# Altium schematic symbol library CON_JST_.SchLib: 33 symbols (part 1 of 2)
Pins are listed as number, name and electrical type; pins without a type are passive.

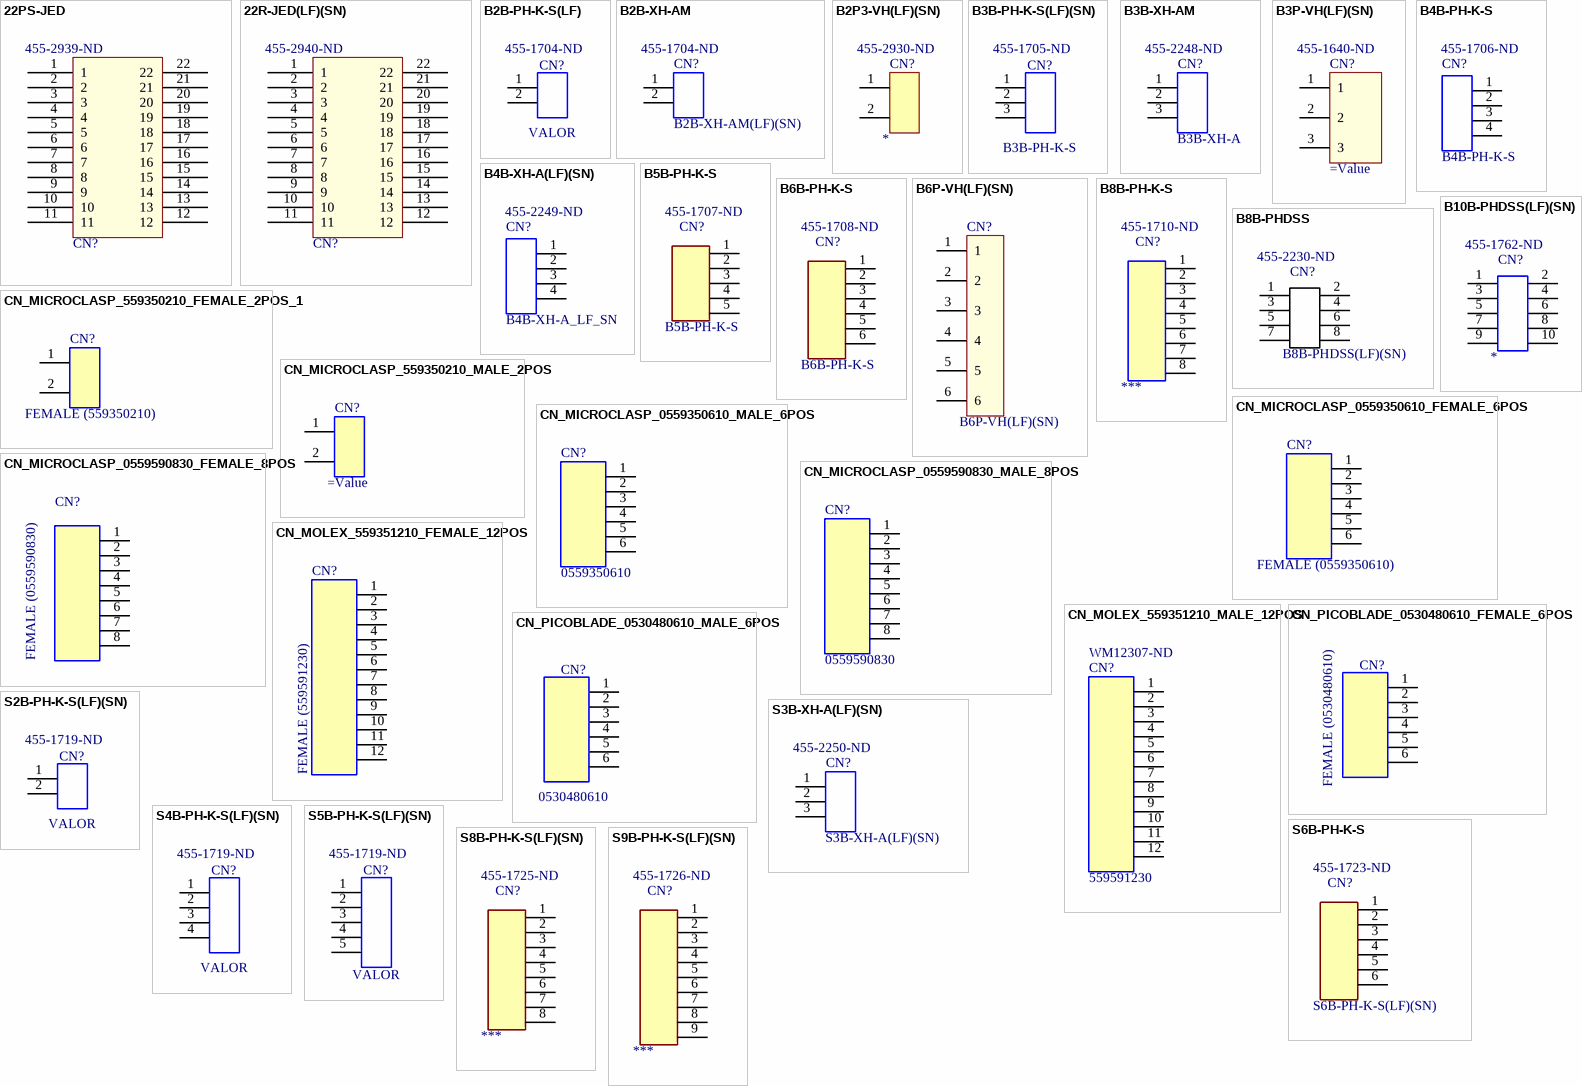
[diagram p0: symbols 22PS-JED to S9B-PH-K-S(LF)(SN)]

## 22PS-JED
designator CN?  Supplier Part Number 1: 455-2939-ND
Grid pitch: 1.25 mm 22PS-JED JST Content: 1 pc(s); FABRICANTE: JST Sales America Inc.; Number of Positions: 22; Pitch: 0.049inch; Row Spacing: 0.079inch; MPN: 22PS-JED; FOOTPRINT: 22PS-JED; VALUE: *; ComponentLink1Description: LOJA; ComponentLink1URL: https://www.digikey.com/products/en?keywords=22PS-JED; ComponentLink2Description: DATASHEET; ComponentLink2URL: http://www.jst-mfg.com/product/pdf/eng/eJED.pdf; Supplier 1: Digi-Key; Manufacturer: JST; Manufacturer Part Number: 22PS-JED; RoHS: Yes; Category: Board to Board Connectors; Stock 1: 639; Pricing 1: 1=1,18000, 10=1,04100, 100=0,89780, 500=0,73454, 1000=0,65293, 5000=0,57132, 10000=0,54275 (USD); Mount: Through Hole; Contact Plating: Tin; Color: Natural; Contact Material: Gold; Package Quantity: 500; Number of Rows: 2; Packaging: Bulk; Termination: Solder; Contact Mating Length: 0.079inch; Lead Free: Lead Free; ComponentLink3URL: https://datasheet.ciiva.com/410/ejed-410196.pdf?src-supplier=Digi-Key; ComponentLink3Description: https://datasheet.ciiva.com/410/ejed-410196.pdf?src-supplier=Digi-Key; ComponentLink4URL: https://datasheet.ciiva.com/29351/554136-da-01-en-stiftleiste-abgewinkelt-2x11-pol-rm1-25-29351110.pdf?src-supplier=Conrad; ComponentLink4Description: https://datasheet.ciiva.com/29351/554136-da-01-en-stiftleiste-abgewinkelt-2x11-pol-rm1-25-29351110.pdf?src-supplier=Conrad
footprint 22PS-JED (CONN HEADER R/A 22POS 1.25MM)
pins: 1, 2, 3, 4, 5, 6, 7, 8, 9, 10, 11, 12, 13, 14, 15, 16, 17, 18, 19, 20, 21, 22

## 22R-JED(LF)(SN)
designator CN?  Supplier Part Number 1: 455-2940-ND
CONN RECEPT 22POS; MPN: 22R-JED(LF)(SN); Manufacturer: JST; FABRICANTE: JST Sales America Inc.; Number of Positions: 22; Connector Type: Receptacle; Pitch: 0.049inch; Row Spacing: 0.079inch; FOOTPRINT: 22R-JED(LF)(SN); VALUE: *; ComponentLink1Description: LOJA; ComponentLink1URL: https://www.digikey.com/products/en?keywords=22PS-JED; ComponentLink2Description: DATASHEET; ComponentLink2URL: http://www.jst-mfg.com/product/pdf/eng/eJED.pdf; Supplier 1: Digi-Key; Manufacturer Part Number: 22R-JED(LF)(SN); RoHS: Yes; Category: Connectors; Stock 1: 2; Pricing 1: 1=1,27000, 10=1,11900, 100=0,96510, 500=0,78966, 1000=0,70192, 5000=0,61418, 10000=0,58347 (USD); Mount: Through Hole; Contact Plating: Tin; Color: Natural; Termination: Solder; Package Quantity: 500; Number of Rows: 2; Packaging: Bulk; Lead Free: Lead Free; ComponentLink3URL: https://datasheet.ciiva.com/413/ejed-413317.pdf?src-supplier=Digi-Key; ComponentLink3Description: https://datasheet.ciiva.com/413/ejed-413317.pdf?src-supplier=Digi-Key
footprint 22R-JED(LF)(SN) (CONN RCPT 22POS 0.049 TIN PCB)
pins: 1, 2, 3, 4, 5, 6, 7, 8, 9, 10, 11, 12, 13, 14, 15, 16, 17, 18, 19, 20, 21, 22

## B2B-PH-K-S(LF)
designator CN?, comment VALOR  Supplier Part Number 1: 455-1704-ND
Connector Header, PH Series, 2 Position, 2.00mm, Through Hole, Press-Fit, Solder, Natural; MPN: B2B-PH-K-S; Manufacturer: JST; Manufacturer Part Number: B2B-PH-K-S(LF)(SN); Fabricante: JST Sales; Footprint: None; Value: VALOR; ComponentLink1Description: LOJA; ComponentLink1URL: https://www.digikey.com/products/en?keywords=B2B-PH-K-S(LF); Supplier 1: Digi-Key; RoHS: Yes; Category: Connectors; Stock 1: 47313; Pricing 1: 1=0,17000, 10=0,16200, 100=0,10020, 500=0,08288, 1000=0,07252, 5000=0,06216, 10000=0,06044 (USD); Weight: 0.0625lb; Length: 0.2inch; Height: 0.35inch; Width: 0.24inch; ComponentLink2URL: http://www.farnell.com/datasheets/2057211.pdf?src-supplier=Farnell; ComponentLink2Description: http://www.farnell.com/datasheets/2057211.pdf?src-supplier=Farnell; ComponentLink3URL: http://www.farnell.com/datasheets/2057211.pdf?src-supplier=Element14; ComponentLink3Description: http://www.farnell.com/datasheets/2057211.pdf?src-supplier=Element14; ComponentLink4URL: http://www.farnell.com/datasheets/2057211.pdf?src-supplier=Newark; ComponentLink4Description: http://www.farnell.com/datasheets/2057211.pdf?src-supplier=Newark
footprint JST_B2B-PH-K-S(LF)(SN)
pins: 1, 2

## B2B-XH-AM
designator CN?, comment B2B-XH-AM(LF)(SN)  Supplier Part Number 1: 455-1704-ND
Connector Header, PH Series, 2 Position, 2.00mm, Through Hole, Press-Fit, Solder, Natural; Manufacturer: JST; Manufacturer Part Number: B2B-PH-K-S(LF)(SN); Fabricante: JST Sales; MPN: B2B-XH-AM(LF)(SN); Footprint: None; Value: B2B-XH-AM(LF)(SN); ComponentLink1Description: LOJA; ComponentLink1URL: https://www.digikey.com/product-detail/en/jst-sales-america-inc/B2B-XH-AM-LF-SN/455-2273-ND/1016630; Supplier 1: Digi-Key; RoHS: Yes; Category: Connectors; Stock 1: 47313; Pricing 1: 1=0,17000, 10=0,16200, 100=0,10020, 500=0,08288, 1000=0,07252, 5000=0,06216, 10000=0,06044 (USD); Weight: 0.0625lb; Length: 0.2inch; Height: 0.35inch; Width: 0.24inch; ComponentLink2URL: http://www.farnell.com/datasheets/2057211.pdf?src-supplier=Farnell; ComponentLink2Description: http://www.farnell.com/datasheets/2057211.pdf?src-supplier=Farnell; ComponentLink3URL: http://www.farnell.com/datasheets/2057211.pdf?src-supplier=Element14; ComponentLink3Description: http://www.farnell.com/datasheets/2057211.pdf?src-supplier=Element14; ComponentLink4URL: http://www.farnell.com/datasheets/2057211.pdf?src-supplier=Newark; ComponentLink4Description: http://www.farnell.com/datasheets/2057211.pdf?src-supplier=Newark
footprint JST_B2B-XH-AM (Connector Header Through Hole 2 position 0.098" (2.50mm))
pins: 1, 2

## B2P3-VH(LF)(SN)
designator CN?  Supplier Part Number 1: 455-2930-ND
Conn Wire to Board HDR 2 POS 7.92mm Solder ST Thru-Hole Box; MPN: B2P3-VH(LF)(SN); Manufacturer Part Number: B2P3VHLFSN; Fabricante: JST; Number of Positions: 2; Max Voltage Rating (AC): 250V; Connector Type: Male Pin; Contact Resistance: 20mR; Max Current Rating: 7A; Pitch: 0.312inch; Value: *; Footprint: PTH 2 PIN; ComponentLink1Description: LOJA; ComponentLink1URL: https://www.digikey.com/product-detail/en/jst-sales-america-inc/B2P3-VH-LF-SN/455-2930-ND/1963307; ComponentLink2Description: datasheet; ComponentLink2URL: http://www.jst-mfg.com/product/pdf/eng/eVA.pdf; Supplier 1: Digi-Key; Manufacturer: JST; RoHS: Yes; Category: Connectors; Mount: Through Hole; Housing Material: Polyamide; Housing Color: White; Contact Material: Brass; Contact Plating: Tin,Copper; Color: Natural; Min Operating Temperature: -25°C; Max Operating Temperature: 85°C; Termination: Solder; Orientation: Straight; Number of Rows: 1; Package Quantity: 1000; Fastening Type: Ramp,Friction; Packaging: Bulk; Length: 11.82mm; Contact Mating Length: 0.303inch; Depth: 8.5mm; Lead Free: Lead Free; ComponentLink3URL: https://datasheet.ciiva.com/16387/b2p3-vh-lf-sn-16387738.pdf?src-supplier=Future+Electronics; ComponentLink3Description: https://datasheet.ciiva.com/16387/b2p3-vh-lf-sn-16387738.pdf?src-supplier=Future+Electronics; ComponentLink4URL: https://datasheet.ciiva.com/26894/getdatasheetpartid-433263-26894763.pdf?src-supplier=Verical; ComponentLink4Description: https://datasheet.ciiva.com/26894/getdatasheetpartid-433263-26894763.pdf?src-supplier=Verical; ComponentLink5URL: https://datasheet.ciiva.com/730/eva-730588.pdf?src-supplier=Digi-Key; ComponentLink5Description: https://datasheet.ciiva.com/730/eva-730588.pdf?src-supplier=Digi-Key
footprint B2P3-VH(LF)(SN) (CONN HEADER VERT 2POS 7.92MM)
pins: 1, 2

## B3B-PH-K-S(LF)(SN)
designator CN?, comment B3B-PH-K-S  Supplier Part Number 1: 455-1705-ND
JST (JAPAN SOLDERLESS TERMINALS) - B3B-PH-K-S(LF)(SN) - Pin Header, Top Entry, Wire-to-Board, 2 mm, 1 Rows, 3 Contacts, Through Hole, PH Series; Fabricante: JST Sales; Number of Positions: 3; Connector Type: Male Pin; Current Rating: 2A; Contact Resistance: 20mR; Insulation Resistance: 1MR; Gender: Male; Voltage Rating (AC): 100V; Pitch: 2mm; MPN: B3B-PH-K-S; Footprint: None; Value: B3B-PH-K-S; ComponentLink1Description: LOJA; ComponentLink1URL: https://www.digikey.com/products/en?keywords=B3B-PH-K-S(LF)(SN); Supplier 1: Digi-Key; Manufacturer: JST; Manufacturer Part Number: B3B-PH-K-S(LF)(SN); RoHS: Yes; Category: Headers and Wire Housings; Stock 1: 65230; Pricing 1: 1=0,19000, 10=0,18200, 100=0,12620, 500=0,10676, 1000=0,08736, 5000=0,07765, 10000=0,07037 (USD); Mount: Through Hole; Number of Pins: 3; Contact Plating: Tin,Copper; Color: Natural; Contact Material: Brass,Tin; Housing Color: White; Housing Material: Polyamide; Min Operating Temperature: -25°C; Max Operating Temperature: 85°C; Number of Rows: 1; Packaging: Bulk; Termination: Solder; Fastening Type: Detent; Number of Contacts: 3; Orientation: Straight; Max Current Rating: 2A; Number of Poles: 3; Voltage Rating: 100V; Max Voltage Rating (AC): 100V; Max Voltage Rating (DC): 100V; Working Voltage: 100V; Length: 7.9mm; Height: 9.4mm; Contact Mating Length: 0.13inch; Width: 4.5mm; Lead Pitch: 2mm; Depth: 4.5mm; Lead Free: Lead Free; REACH SVHC: No SVHC; ComponentLink2URL: https://datasheet.ciiva.com/6747/80560-6747401.pdf?src-supplier=Newark; ComponentLink2Description: https://datasheet.ciiva.com/6747/80560-6747401.pdf?src-supplier=Newark; ComponentLink3URL: https://datasheet.ciiva.com/11746/0900766b80826550-11746939.pdf?src-supplier=RSComponents; ComponentLink3Description: https://datasheet.ciiva.com/11746/0900766b80826550-11746939.pdf?src-supplier=RSComponents; ComponentLink4URL: https://datasheet.ciiva.com/26894/getdatasheetpartid-448114-26894774.pdf?src-supplier=Verical; ComponentLink4Description: https://datasheet.ciiva.com/26894/getdatasheetpartid-448114-26894774.pdf?src-supplier=Verical; ComponentLink5URL: https://datasheet.ciiva.com/712/eph-712455.pdf?src-supplier=Digi-Key; ComponentLink5Description: https://datasheet.ciiva.com/712/eph-712455.pdf?src-supplier=Digi-Key; ComponentLink6URL: https://datasheet.ciiva.com/26924/getdatasheetpartid-651387-26924028.pdf?src-supplier=Verical; ComponentLink6Description: https://datasheet.ciiva.com/26924/getdatasheetpartid-651387-26924028.pdf?src-supplier=Verical; ComponentLink7URL: https://datasheet.ciiva.com/16200/eph-16200926.pdf?src-supplier=Future+Electronics; ComponentLink7Description: https://datasheet.ciiva.com/16200/eph-16200926.pdf?src-supplier=Future+Electronics; ComponentLink8URL: https://datasheet.ciiva.com/43491/741202-da-01-en-stiftleiste-gerade-3-pol-rm2-0-43491962.pdf?src-supplier=Conrad; ComponentLink8Description: https://datasheet.ciiva.com/43491/741202-da-01-en-stiftleiste-gerade-3-pol-rm2-0-43491962.pdf?src-supplier=Conrad
footprint JST_B3B-PH-K-S(LF)(SN)
pins: 1, 2, 3

## B3B-XH-AM
designator CN?, comment B3B-XH-A  Supplier Part Number 1: 455-2248-ND
JST (JAPAN SOLDERLESS TERMINALS) - B3B-XH-A (LF)(SN) - Wire-To-Board Connector, 2.5 mm, 3 Contacts, Header, XH Series, Through Hole, 1 Rows; Fabricante: JST Sales; Insulation Resistance: 1GR; Current Rating: 3A; Contact Resistance: 20mR; Number of Positions: 3; Connector Type: Male Pin; Max Voltage Rating (AC): 250V; Gender: Male; Pitch: 2.5mm; Wire/Cable Gauge: 22AWG; MPN: B3B-XH-A; Footprint: None; Value: B3B-XH-A; ComponentLink1Description: LOJA; ComponentLink1URL: https://www.digikey.com/product-detail/en/jst-sales-america-inc/B3B-XH-AM-LF-SN/455-2231-ND/1651029; Supplier 1: Digi-Key; Manufacturer: JST; Manufacturer Part Number: B3B-XH-A(LF)(SN); RoHS: Yes; Category: Headers and Wire Housings; Stock 1: 29132; Pricing 1: 1=0,190000, 10=0,181000, 100=0,111500, 500=0,092280, 1000=0,080750, 5000=0,069210, 10000=0,067290 (USD); Mount: Through Hole; Contact Plating: Tin,Lead,Copper; Contact Material: Brass; Color: Natural; Housing Material: Polyamide; Housing Color: White; Min Operating Temperature: -25°C; Max Operating Temperature: 85°C; Packaging: Bulk; Termination: Press-Fit; Number of Rows: 1; Orientation: Straight; Max Current Rating: 3A; Fastening Type: Detent; Voltage Rating (AC): 250V; Voltage Rating: 250V; Number of Contacts: 3; Max Voltage Rating (DC): 250V; Length: 9.9mm; Depth: 5.75mm; Lead Pitch: 2.5mm; Lead Free: Lead Free; REACH SVHC: No SVHC; ComponentLink2URL: https://datasheet.ciiva.com/26894/getdatasheetpartid-640434-26894454.pdf?src-supplier=Verical; ComponentLink2Description: https://datasheet.ciiva.com/26894/getdatasheetpartid-640434-26894454.pdf?src-supplier=Verical; ComponentLink3URL: https://datasheet.ciiva.com/11746/0900766b8082653f-11746520.pdf?src-supplier=RSComponents; ComponentLink3Description: https://datasheet.ciiva.com/11746/0900766b8082653f-11746520.pdf?src-supplier=RSComponents; ComponentLink4URL: https://datasheet.ciiva.com/26894/getdatasheetpartid-440399-26894778.pdf?src-supplier=Verical; ComponentLink4Description: https://datasheet.ciiva.com/26894/getdatasheetpartid-440399-26894778.pdf?src-supplier=Verical
footprint JST_B3B-XH-A(LF)(SN)
pins: 1, 2, 3

## B3P-VH(LF)(SN)
designator CN?  Supplier Part Number 1: 455-1640-ND
Manufacturer 1: JST; Manufacturer Part Number 1: B3P-VH(LF)(SN); Description 1: JST (JAPAN SOLDERLESS TERMINALS) - B3P-VH(LF)(SN) - Pin Header, Wire-to-Board, 3.96 mm, 1 Rows, 3 Contacts, Through Hole, VH Series; Current Rating: 10A; Voltage Rating (AC): 250V; Contact Resistance: 20mR; Number of Positions: 3; Insulation Resistance: 1GR; Gender: Male; Connector Type: Header,Male Pin; Pitch: 3.96mm; Supplier 1: Digi-Key; Stock 1: 17477; Pricing 1: 1=0,24000, 10=0,22700, 100=0,15740, 500=0,13322, 1000=0,10900, 5000=0,09689, 10000=0,08780 (USD); RoHS: Yes; Mount: Through Hole; Number of Pins: 3; Contact Material: Brass,Tin; Contact Plating: Tin,Copper; Color: Natural; Housing Color: White; Housing Material: Polyamide; Contact Shape: Square; Insulation Material: Nylon; Insulation Color: Natural; Min Operating Temperature: -25°C; Max Operating Temperature: 85°C; Number of Rows: 1; Voltage Rating (DC): 250V; Fastening Type: Ramp; Packaging: Bulk; Voltage Rating: 250V; Max Current Rating: 10A; Termination: Solder; Number of Contacts: 3; Working Voltage: 250V; Max Voltage Rating (AC): 250V; Max Voltage Rating (DC): 250V; Orientation: Straight; Length: 11.82mm; Height: 8.5mm; Width: 14.6mm; Lead Pitch: 3.96mm; Contact Mating Length: 0.303inch; Depth: 8.5mm; REACH SVHC: No SVHC; Lead Free: Lead Free; Flammability Rating: UL94 V-0; ComponentLink1URL: https://datasheet.ciiva.com/11752/0900766b8082f569-11752092.pdf?src-supplier=RSComponents; ComponentLink1Description: https://datasheet.ciiva.com/11752/0900766b8082f569-11752092.pdf?src-supplier=RSComponents; ComponentLink2URL: https://datasheet.ciiva.com/712/evh-712484.pdf?src-supplier=Digi-Key; ComponentLink2Description: https://datasheet.ciiva.com/712/evh-712484.pdf?src-supplier=Digi-Key; ComponentLink3URL: https://datasheet.ciiva.com/8052/evh-8052040.pdf?src-supplier=Element14; ComponentLink3Description: https://datasheet.ciiva.com/8052/evh-8052040.pdf?src-supplier=Element14; ComponentLink4URL: https://datasheet.ciiva.com/20207/523651-20207208.pdf?src-supplier=Rapid+Electronics; ComponentLink4Description: https://datasheet.ciiva.com/20207/523651-20207208.pdf?src-supplier=Rapid+Electronics
footprint B3P-VH(LF)(SN)
pins: 1, 2, 3

## B4B-PH-K-S
designator CN?  Supplier Part Number 1: 455-1706-ND
JST (JAPAN SOLDERLESS TERMINALS) - B4B-PH-K-S(LF)(SN) - Pin Header, Wire-to-Board, 2 mm, 1 Rows, 4 Contacts, Through Hole, PH Series; Fabricante: JST Sales; Current Rating: 2A; Contact Resistance: 20mR; Number of Positions: 4; Insulation Resistance: 1MR; Gender: Male; Connector Type: Male Pin; Voltage Rating: 100V; Pitch: 2mm; MPN: B4B-PH-K-S; Footprint: PTH 4Pin; Value: B4B-PH-K-S; Supplier 1: Digi-Key; Manufacturer: JST; Manufacturer Part Number: B4B-PH-K-S(LF)(SN); RoHS: Yes; Category: Connectors; Pricing 1: 1=0,240000, 10=0,227000, 100=0,157300, 500=0,133120, 1000=0,108920, 5000=0,096820, 10000=0,087740 (USD); Mount: Through Hole; Number of Pins: 4; Contact Material: Brass,Tin; Contact Plating: Tin,Copper; Color: Natural; Housing Color: White; Housing Material: Polyamide; Material: Polyamide; Min Operating Temperature: -25°C; Max Operating Temperature: 85°C; Number of Rows: 1; Packaging: Bulk; Termination: Solder; Fastening Type: Detent; Number of Contacts: 4; Orientation: Straight; Max Current Rating: 2A; Number of Poles: 4; Voltage Rating (AC): 100V; Max Voltage Rating (AC): 100V; Max Voltage Rating (DC): 100V; Working Voltage: 100V; Length: 9.9mm; Height: 9.4mm; Width: 4.5mm; Contact Mating Length: 0.13inch; Lead Pitch: 2mm; Depth: 4.5mm; Lead Free: Lead Free; REACH SVHC: No SVHC; ComponentLink1URL: https://datasheet.ciiva.com/11747/0900766b8082f552-11747200.pdf?src-supplier=RSComponents; ComponentLink1Description: https://datasheet.ciiva.com/11747/0900766b8082f552-11747200.pdf?src-supplier=RSComponents; ComponentLink2URL: https://datasheet.ciiva.com/712/eph-712488.pdf?src-supplier=Digi-Key; ComponentLink2Description: https://datasheet.ciiva.com/712/eph-712488.pdf?src-supplier=Digi-Key; ComponentLink3URL: https://datasheet.ciiva.com/16209/eph-16209245.pdf?src-supplier=Future+Electronics; ComponentLink3Description: https://datasheet.ciiva.com/16209/eph-16209245.pdf?src-supplier=Future+Electronics; ComponentLink4URL: https://datasheet.ciiva.com/43491/741223-da-01-en-stiftleiste-gerade-4-pol-rm2-0-43491964.pdf?src-supplier=Conrad; ComponentLink4Description: https://datasheet.ciiva.com/43491/741223-da-01-en-stiftleiste-gerade-4-pol-rm2-0-43491964.pdf?src-supplier=Conrad
footprint JST_B4B-PH-K-S(LF)(SN)
pins: 1, 2, 3, 4

## B4B-XH-A(LF)(SN)
designator CN?, comment B4B-XH-A_LF_SN  Supplier Part Number 1: 455-2249-ND
JST (JAPAN SOLDERLESS TERMINALS) - B4B-XH-A (LF)(SN) - Wire-To-Board-Steckverbinder, vertikal, 2.5 mm, 4 Kontakt(e), Stiftleiste, Baureihe XH; Fabricante: JST Sales; Gender: Male; Contact Resistance: 20mR; Current Rating: 3A; Voltage Rating (AC): 250V; Connector Type: Male Pin; Number of Positions: 4; Insulation Resistance: 1GR; Wire/Cable Gauge: 22AWG; Pitch: 2.5mm; MPN: B4B-XH-A_LF_SN; Footprint: None; Value: B4B-XH-A_LF_SN; Supplier 1: Digi-Key; Manufacturer: JST; Manufacturer Part Number: B4B-XH-A(LF)(SN); RoHS: Yes; Category: FFC / FPC; Stock 1: 60226; Pricing 1: 1=0,210000, 10=0,194000, 100=0,134800, 500=0,114060, 1000=0,093330, 5000=0,082960, 10000=0,075180 (USD); Mount: Through Hole; Material: Polyamide; Contact Plating: Tin,Copper,Lead; Contact Material: Brass; Color: Natural; Housing Material: Polyamide; Housing Color: White; Min Operating Temperature: -25°C; Max Operating Temperature: 85°C; Number of Rows: 1; Max Current Rating: 3A; Package Quantity: 500; Packaging: Bulk; Voltage Rating: 250V; Termination: Press-Fit; Max Voltage Rating (AC): 250V; Max Voltage Rating (DC): 250V; Number of Contacts: 4; Orientation: Straight; Length: 12.4mm; Lead Pitch: 2.5mm; Depth: 5.75mm; REACH SVHC: No SVHC; Lead Free: Lead Free; ComponentLink1URL: https://datasheet.ciiva.com/26894/getdatasheetpartid-455616-26894787.pdf?src-supplier=Verical; ComponentLink1Description: https://datasheet.ciiva.com/26894/getdatasheetpartid-455616-26894787.pdf?src-supplier=Verical; ComponentLink2URL: https://datasheet.ciiva.com/26924/getdatasheetpartid-640571-26924035.pdf?src-supplier=Verical; ComponentLink2Description: https://datasheet.ciiva.com/26924/getdatasheetpartid-640571-26924035.pdf?src-supplier=Verical; ComponentLink3URL: https://datasheet.ciiva.com/16203/b4b-xh-alfsn-16203642.pdf?src-supplier=Future+Electronics; ComponentLink3Description: https://datasheet.ciiva.com/16203/b4b-xh-alfsn-16203642.pdf?src-supplier=Future+Electronics; ComponentLink4URL: https://datasheet.ciiva.com/726/exh-726404.pdf?src-supplier=Digi-Key; ComponentLink4Description: https://datasheet.ciiva.com/726/exh-726404.pdf?src-supplier=Digi-Key
footprint JST_B4B-XH-A(LF)(SN)
pins: 1, 2, 3, 4

## B5B-PH-K-S
designator CN?  Supplier Part Number 1: 455-1707-ND
JST (JAPAN SOLDERLESS TERMINALS) - B5B-PH-K-S(LF)(SN) - Pin Header, Wire-to-Board, 2 mm, 1 Rows, 5 Contacts, Through Hole, PH Series; Fabricante: JST Sales; Current Rating: 2A; Contact Resistance: 20mR; Number of Positions: 5; Insulation Resistance: 1GR; Gender: Male; Connector Type: Male Pin; Voltage Rating: 100V; Pitch: 2mm; MPN: B5B-PH-K-S; Footprint: PTH 5Pin; Value: B5B-PH-K-S; ComponentLink1Description: LOJA; ComponentLink1URL: https://www.digikey.com/product-detail/en/jst-sales-america-inc/B5B-PH-K-S-LF-SN/455-1707-ND/926614; Supplier 1: Digi-Key; Manufacturer: JST; Manufacturer Part Number: B5B-PH-K-S(LF)(SN); RoHS: Yes; Category: Headers and Wire Housings; Stock 1: 35735; Pricing 1: 1=0,290000, 10=0,274000, 100=0,191800, 500=0,164380, 1000=0,136990, 5000=0,117420, 10000=0,109590 (USD); Mount: Through Hole; Number of Pins: 5; Contact Material: Brass,Tin; Color: Natural; Contact Plating: Tin,Copper; Housing Color: White; Housing Material: Polyamide; Material: Polyamide; Min Operating Temperature: -25°C; Max Operating Temperature: 85°C; Number of Rows: 1; Packaging: Bulk; Termination: Solder; Fastening Type: Detent; Number of Contacts: 5; Orientation: Straight; Max Current Rating: 2A; Number of Poles: 5; Voltage Rating (AC): 100V; Max Voltage Rating (AC): 100V; Working Voltage: 100V; Length: 11.9mm; Height: 9.4mm; Width: 4.5mm; Contact Mating Length: 0.13inch; Lead Pitch: 2mm; Depth: 4.5mm; Lead Free: Lead Free; REACH SVHC: No SVHC; ComponentLink2URL: https://datasheet.ciiva.com/11746/0900766b8082f553-11746665.pdf?src-supplier=RSComponents; ComponentLink2Description: https://datasheet.ciiva.com/11746/0900766b8082f553-11746665.pdf?src-supplier=RSComponents; ComponentLink3URL: https://datasheet.ciiva.com/712/eph-712531.pdf?src-supplier=Digi-Key; ComponentLink3Description: https://datasheet.ciiva.com/712/eph-712531.pdf?src-supplier=Digi-Key; ComponentLink4URL: https://datasheet.ciiva.com/20207/523648-20207238.pdf?src-supplier=Rapid+Electronics; ComponentLink4Description: https://datasheet.ciiva.com/20207/523648-20207238.pdf?src-supplier=Rapid+Electronics; ComponentLink5URL: https://datasheet.ciiva.com/26894/getdatasheetpartid-640355-26894471.pdf?src-supplier=Verical; ComponentLink5Description: https://datasheet.ciiva.com/26894/getdatasheetpartid-640355-26894471.pdf?src-supplier=Verical; ComponentLink6URL: https://datasheet.ciiva.com/8052/80560-8052060.pdf?src-supplier=Element14; ComponentLink6Description: https://datasheet.ciiva.com/8052/80560-8052060.pdf?src-supplier=Element14
footprint JST_B5B-PH-K-S(LF)(SN)
pins: 1, 2, 3, 4, 5

## B6B-PH-K-S
designator CN?  Supplier Part Number 1: 455-1708-ND
Conn Shrouded Header HDR 6 POS 2mm Solder ST Thru-Hole Box; MPN: B6B-PH-K-S(LF)(SN); Manufacturer: JST; Fabricante: JST Sales; Current Rating: 2A; Number of Positions: 6; Insulation Resistance: 1MR; Working Voltage: 100V; Gender: Male; Contact Resistance: 20mR; Connector Type: Male Pin; Footprint: PTH 5Pin; Value: B6B-PH-K-S; ComponentLink1Description: LOJA; ComponentLink1URL: https://www.digikey.com/product-detail/en/jst-sales-america-inc/B6B-PH-K-S-LF-SN/455-1708-ND/926615; Supplier 1: Digi-Key; Manufacturer Part Number: B6B-PH-K-S(LF)(SN); RoHS: Yes; Category: Connectors; Pricing 1: 1=0,33000, 10=0,31300, 100=0,21940, 500=0,18808, 1000=0,15674, 5000=0,13435, 10000=0,12539 (USD); Mount: Through Hole; Number of Pins: 6; Contact Material: Tin,Brass; Color: Natural; Contact Plating: Tin,Copper; Housing Material: Polyamide; Housing Color: White; Min Operating Temperature: -25°C; Max Operating Temperature: 85°C; Termination: Solder; Fastening Type: Detent; Number of Contacts: 6; Max Voltage Rating (AC): 100V; Number of Rows: 1; Packaging: Bulk; Number of Poles: 6; Voltage Rating (AC): 100V; Max Current Rating: 2A; Voltage Rating: 100V; Orientation: Straight; Length: 13.9mm; Height: 9.4mm; Pitch: 2mm; Width: 4.5mm; Contact Mating Length: 0.13inch; Depth: 4.5mm; Lead Pitch: 2mm; Lead Free: Lead Free; REACH SVHC: No SVHC; ComponentLink2URL: https://datasheet.ciiva.com/11747/0900766b8082f554-11747368.pdf?src-supplier=RSComponents; ComponentLink2Description: https://datasheet.ciiva.com/11747/0900766b8082f554-11747368.pdf?src-supplier=RSComponents; ComponentLink3URL: https://datasheet.ciiva.com/712/eph-712563.pdf?src-supplier=Digi-Key; ComponentLink3Description: https://datasheet.ciiva.com/712/eph-712563.pdf?src-supplier=Digi-Key; ComponentLink4URL: https://datasheet.ciiva.com/26894/getdatasheetpartid-639917-26894487.pdf?src-supplier=Verical; ComponentLink4Description: https://datasheet.ciiva.com/26894/getdatasheetpartid-639917-26894487.pdf?src-supplier=Verical; ComponentLink5URL: https://datasheet.ciiva.com/20207/523648-20207241.pdf?src-supplier=Rapid+Electronics; ComponentLink5Description: https://datasheet.ciiva.com/20207/523648-20207241.pdf?src-supplier=Rapid+Electronics; ComponentLink6URL: https://datasheet.ciiva.com/8052/80560-8052027.pdf?src-supplier=Element14; ComponentLink6Description: https://datasheet.ciiva.com/8052/80560-8052027.pdf?src-supplier=Element14
footprint JST_B6B-PH-K-S(LF)(SN)
pins: 1, 2, 3, 4, 5, 6

## B6P-VH(LF)(SN)
designator CN?
Manufacturer 1: JST; Description 1: CONNECTOR, HEADER, 6POS, 3.96MM, 1ROW; Product Range:VH Series; Contact Termination Type:Through Hole; Gender:Header; No. of Contacts:6; Pitch Spacing:3.96mm; Contact Plating:Tin; Contact Material:Brass; No. of Rows:1; SVHC:No SVHC ;RoHS Compliant: Yes; Current Rating: 10A; Number of Positions: 6; Max Voltage Rating (AC): 250V; Gender: Male; Contact Resistance: 20mR; Connector Type: Male Pin; Pitch: 3.96mm; Supplier 1: Digi-Key; Manufacturer Part Number 1: B6P-VH(LF)(SN); Stock 1: 2451; Pricing 1: 1=0,40000, 10=0,38100, 100=0,26680, 500=0,22866, 1000=0,19055, 5000=0,16333, 10000=0,15244 (USD); RoHS: Yes; Mount: Through Hole; Number of Pins: 6; Contact Material: Brass,Tin; Contact Plating: Tin,Copper; Color: Natural; Housing Material: Polyamide; Housing Color: White; Min Operating Temperature: -25°C; Max Operating Temperature: 85°C; Termination: Solder; Number of Contacts: 6; Number of Rows: 1; Voltage Rating: 250V; Fastening Type: Ramp; Packaging: Bulk; Max Current Rating: 10A; Orientation: Straight; Length: 23.7mm; Height: 8.5mm; Width: 14.6mm; Contact Mating Length: 0.303inch; Depth: 8.5mm; Lead Free: Lead Free; REACH SVHC: No SVHC; ComponentLink1URL: https://datasheet.ciiva.com/14667/0900766b81147fae-14667346.pdf?src-supplier=RSComponents; ComponentLink1Description: https://datasheet.ciiva.com/14667/0900766b81147fae-14667346.pdf?src-supplier=RSComponents; ComponentLink2URL: https://datasheet.ciiva.com/11752/0900766b8082f56f-11752080.pdf?src-supplier=RSComponents; ComponentLink2Description: https://datasheet.ciiva.com/11752/0900766b8082f56f-11752080.pdf?src-supplier=RSComponents; ComponentLink3URL: https://datasheet.ciiva.com/712/evh-712593.pdf?src-supplier=Digi-Key; ComponentLink3Description: https://datasheet.ciiva.com/712/evh-712593.pdf?src-supplier=Digi-Key; ComponentLink4URL: https://datasheet.ciiva.com/16396/evh-16396374.pdf?src-supplier=Future+Electronics; ComponentLink4Description: https://datasheet.ciiva.com/16396/evh-16396374.pdf?src-supplier=Future+Electronics; ComponentLink5URL: https://datasheet.ciiva.com/20207/523651-20207214.pdf?src-supplier=Rapid+Electronics; ComponentLink5Description: https://datasheet.ciiva.com/20207/523651-20207214.pdf?src-supplier=Rapid+Electronics; ComponentLink6URL: https://datasheet.ciiva.com/43491/741139-da-01-en-stiftleiste-gerade-6-pol-rm3-96-43491978.pdf?src-supplier=Conrad; ComponentLink6Description: https://datasheet.ciiva.com/43491/741139-da-01-en-stiftleiste-gerade-6-pol-rm3-96-43491978.pdf?src-supplier=Conrad; Value: B6P-VH(LF)(SN); Supplier Part Number 1: 455-1643-ND
footprint CN_B6P-VH(LF)(SN)
pins: 1, 2, 3, 4, 5, 6

## B8B-PH-K-S
designator CN?, comment ***  Supplier Part Number 1: 455-1710-ND
JST (JAPAN SOLDERLESS TERMINALS) - B8B-PH-K-S(LF)(SN) - Wire-To-Board Connector, 2 mm, 8 Contacts, Header, PH Series, Through Hole, 1 Rows; Fabricante: JST Sales; Current Rating: 2A; Gender: Male; Connector Type: Male Pin; Voltage Rating (AC): 100V; Number of Positions: 8; Insulation Resistance: 1MR; Contact Resistance: 20mR; Pitch: 2mm; MPN: B8B-PH-K-S(LF)(SN); Footprint: PTH 8Pin; Value: ***; ComponentLink1Description: LOJA; ComponentLink1URL: https://www.digikey.com/product-detail/en/jst-sales-america-inc/B8B-PH-K-S-LF-SN/455-1710-ND/926617; Supplier 1: Digi-Key; Manufacturer: JST; Manufacturer Part Number: B8B-PH-K-S(LF)(SN); RoHS: Yes; Category: Headers and Wire Housings; Stock 1: 36410; Pricing 1: 1=0,43000, 10=0,40400, 100=0,28300, 500=0,24260, 1000=0,20216, 5000=0,17328, 10000=0,16173 (USD); Mount: Through Hole; Number of Pins: 8; Contact Material: Brass,Tin; Housing Color: White; Housing Material: Polyamide; Color: Natural; Contact Plating: Tin,Copper; Min Operating Temperature: -25°C; Max Operating Temperature: 85°C; Orientation: Straight; Voltage Rating: 100V; Termination: Solder; Fastening Type: Detent; Number of Contacts: 8; Working Voltage: 100V; Max Voltage Rating (AC): 100V; Packaging: Bulk; Max Current Rating: 2A; Number of Rows: 1; Number of Poles: 8; Length: 17.9mm; Height: 9.4mm; Width: 4.5mm; Contact Mating Length: 0.13inch; Depth: 4.5mm; Lead Pitch: 2mm; Lead Free: Lead Free; REACH SVHC: No SVHC; ComponentLink2URL: https://datasheet.ciiva.com/11748/0900766b8082f556-11748132.pdf?src-supplier=RSComponents; ComponentLink2Description: https://datasheet.ciiva.com/11748/0900766b8082f556-11748132.pdf?src-supplier=RSComponents; ComponentLink3URL: https://datasheet.ciiva.com/16287/b8b-ph-k-slfsn-16287181.pdf?src-supplier=Future+Electronics; ComponentLink3Description: https://datasheet.ciiva.com/16287/b8b-ph-k-slfsn-16287181.pdf?src-supplier=Future+Electronics; ComponentLink4URL: https://datasheet.ciiva.com/26894/getdatasheetpartid-640460-26894502.pdf?src-supplier=Verical; ComponentLink4Description: https://datasheet.ciiva.com/26894/getdatasheetpartid-640460-26894502.pdf?src-supplier=Verical; ComponentLink5URL: https://datasheet.ciiva.com/6813/eph-6813750.pdf?src-supplier=Digi-Key; ComponentLink5Description: https://datasheet.ciiva.com/6813/eph-6813750.pdf?src-supplier=Digi-Key
footprint JST_B8B-PH-K-S(LF)(SN) (Connector Header Through Hole 8 position 0.079" (2.00mm))
pins: 1, 2, 3, 4, 5, 6, 7, 8

## B8B-PHDSS
designator CN?, comment B8B-PHDSS(LF)(SN)  Supplier Part Number 1: 455-2230-ND
CONN HEADER VERT 8POS 2MM; Fabricante: JST; Connector Type: Male Pin; Number of Positions: 8; Pitch: 0.079inch; ComponentLink1Description: LOJA; ComponentLink1URL: https://www.digikey.com/product-detail/en/jst-sales-america-inc/B8B-PHDSS-LF-SN/455-2230-ND/1651028; ComponentLink2Description: DATASHEET; ComponentLink2URL: http://www.jst-mfg.com/product/pdf/eng/ePHD.pdf; Value: B8B-PHDSS(LF)(SN); Footprint: B8B-PHDSS(LF)(SN); MPN: B8B-PHDSS(LF)(SN); Supplier 1: Digi-Key; Manufacturer: JST; Manufacturer Part Number: B8B-PHDSS(LF)(SN); RoHS: Yes; Category: Connectors; Pricing 1: 1=0,46000, 10=0,43800, 100=0,30640, 500=0,26262, 1000=0,21885, 5000=0,18758, 10000=0,17508 (USD); Mount: Through Hole; Color: Natural; Contact Plating: Tin,Lead; Packaging: Bulk; Number of Rows: 2; Termination: Solder; Fastening Type: Detent; Row Spacing: 0.079inch; Contact Mating Length: 0.114inch; Lead Free: Lead Free; ComponentLink3URL: https://datasheet.ciiva.com/16418/ephd-16418246.pdf?src-supplier=Future+Electronics; ComponentLink3Description: https://datasheet.ciiva.com/16418/ephd-16418246.pdf?src-supplier=Future+Electronics
footprint B8B-PHDSS (Conn Header TH 8 position 0.079" (2.00mm))
pins: 1, 2, 3, 4, 5, 6, 7, 8

## B10B-PHDSS(LF)(SN)
designator CN?  Supplier Part Number 1: 455-1762-ND
Conn Shrouded Header HDR 10 POS 2mm Solder ST Thru-Hole Box; MPN: B10B-PHDSS(LF)(SN); Fabricante: JST; Number of Positions: 10; Connector Type: Male Pin; Gender: Male; Current Rating: 3A; Contact Resistance: 20mR; Max Voltage Rating (AC): 250V; Row Spacing: 0.079inch; ComponentLink1Description: LOJA; ComponentLink1URL: https://www.digikey.com/products/en?keywords=B10B-PHDSS(LF)(SN); ComponentLink2Description: DATASHEET; ComponentLink2URL: http://www.jst-mfg.com/product/pdf/eng/ePHD.pdf; Value: *; Footprint: B10B-PHDSS TH 10 PIN; Supplier 1: Digi-Key; Manufacturer: JST; Manufacturer Part Number: B10B-PHDSS(LF)(SN); RoHS: Yes; Category: Connectors; Pricing 1: 1=0,50000, 10=0,47300, 100=0,33090, 500=0,28362, 1000=0,23636, 5000=0,20259, 10000=0,18909 (USD); Mount: Through Hole; Contact Material: Copper Alloy,Tin; Contact Plating: Tin,Copper; Color: Natural; Housing Color: Beige; Housing Material: Polyamide; Min Operating Temperature: -25°C; Max Operating Temperature: 85°C; Number of Rows: 2; Orientation: Straight; Packaging: Bulk; Termination: Solder; Number of Contacts: 10; Max Current Rating: 3A; Fastening Type: Detent; Max Voltage Rating (DC): 250V; Length: 11.9mm; Height: 9.5mm; Pitch: 2mm; Width: 5mm; Contact Mating Length: 0.114inch; Depth: 5mm; Lead Free: Lead Free; ComponentLink3URL: https://datasheet.ciiva.com/29317/740597-da-01-en-stiftleiste-10pol-zweireihig-rm-2-0-29317301.pdf?src-supplier=Conrad; ComponentLink3Description: https://datasheet.ciiva.com/29317/740597-da-01-en-stiftleiste-10pol-zweireihig-rm-2-0-29317301.pdf?src-supplier=Conrad
footprint B10B-PHDSS (Conn Header TH 10 position 0.079" (2.00mm))
pins: 1, 2, 3, 4, 5, 6, 7, 8, 9, 10

## CN_MICROCLASP_559350210_FEMALE_2POS_1
designator CN?, comment FEMALE (559350210)
2 Rectangular Connectors - Housings Receptacle White 0.079" (2.00mm)
pins: 1, 2

## CN_MICROCLASP_559350210_MALE_2POS
designator CN?
Connector Header Through Hole, Right Angle 2 position 0.079" (2.00mm); Supplier 1: Digi-Key; Supplier Part Number 1: WM14662-ND
footprint 0559350210 (CONN HEADER R/A 2POS 2MM)
pins: 1, 2

## CN_MICROCLASP_0559350610_FEMALE_6POS
designator CN?, comment FEMALE (0559350610)
pins: 1, 2, 3, 4, 5, 6

## CN_MICROCLASP_0559350610_MALE_6POS
designator CN?, comment 0559350610
CONN HEADER R/A 6POS 2MM - 0559350610; Supplier 1: Digi-Key; Supplier Part Number 1: WM12301-ND
footprint 0559350610 (CONN HEADER R/A 6POS 2MM)
pins: 1, 2, 3, 4, 5, 6

## CN_MICROCLASP_0559590830_FEMALE_8POS
designator CN?, comment FEMALE (0559590830)
pins: 1, 2, 3, 4, 5, 6, 7, 8

## CN_MICROCLASP_0559590830_MALE_8POS
designator CN?, comment 0559590830
Supplier 1: RSComponents; Supplier Part Number 1: 0406534
footprint 0559590830 (CONN HEADER R/A 8POS 2MM)
pins: 1, 2, 3, 4, 5, 6, 7, 8

## CN_MOLEX_559351210_FEMALE_12POS
designator CN?, comment FEMALE (559591230)
pins: 1, 2, 3, 4, 5, 6, 7, 8, 9, 10, 11, 12

## CN_MOLEX_559351210_MALE_12POS
designator CN?, comment 559591230  Supplier Part Number 1: WM12307-ND
Supplier 1: Digi-Key
footprint 559591230 (CONN HEADER R/A 12POS 2MM)
pins: 1, 2, 3, 4, 5, 6, 7, 8, 9, 10, 11, 12

## CN_PICOBLADE_0530480610_FEMALE_6POS
designator CN?, comment FEMALE (0530480610)
CONN HEADER R/A 6POS 1.25MM; Supplier 1: Digi-Key; Supplier Part Number 1: WM1746-ND
pins: 1, 2, 3, 4, 5, 6

## CN_PICOBLADE_0530480610_MALE_6POS
designator CN?, comment 0530480610
CONN HEADER R/A 6POS 1.25MM; Supplier 1: Digi-Key; Supplier Part Number 1: WM1746-ND
footprint 0530480610 (CONN HEADER R/A 6POS 1.25MM)
pins: 1, 2, 3, 4, 5, 6

## S2B-PH-K-S(LF)(SN)
designator CN?, comment VALOR  Supplier Part Number 1: 455-1719-ND
Conn Shrouded Header (4 Sides) HDR 2 POS 2mm Solder RA Thru-Hole Box; MPN: S2B-PH-K-S(LF)(SN); Manufacturer: JST; Fabricante: JST Sales; Current Rating: 2A; Contact Resistance: 20mR; Voltage Rating: 100V; Number of Positions: 2; Gender: Male; Connector Type: Male Pin; Insulation Resistance: 1GR; Footprint: PTH R/A 2 PIN; Value: VALOR; ComponentLink1Description: LOJA; ComponentLink1URL: https://www.digikey.com/products/en?keywords=B2B-PH-K-S(LF); Supplier 1: Digi-Key; Manufacturer Part Number: S2B-PH-K-S(LF)(SN); RoHS: Yes; Category: Headers and Wire Housings; Pricing 1: 1=0,170000, 10=0,161000, 100=0,099100, 500=0,082020, 1000=0,071770, 5000=0,061520, 10000=0,059810 (USD); Mount: Through Hole; Number of Pins: 2; Contact Material: Tin,Brass,Bronze; Contact Plating: Tin,Copper; Color: Natural,White; Housing Color: White; Housing Material: Polyamide; Min Operating Temperature: -25°C; Max Operating Temperature: 85°C; Max Current Rating: 2A; Number of Rows: 1; Packaging: Bulk; Termination: Solder; Fastening Type: Detent; Number of Contacts: 2; Max Voltage Rating (AC): 100V; Orientation: Right Angle; Number of Poles: 2; Voltage Rating (AC): 100V; Max Voltage Rating (DC): 100V; Working Voltage: 100V; Length: 5.9mm; Height: 9.4mm; Pitch: 2mm; Width: 4.5mm; Contact Mating Length: 0.13inch; Depth: 7.6mm; Lead Pitch: 2mm; REACH SVHC: No SVHC; Lead Free: Lead Free; Flammability Rating: UL94 V-0; ComponentLink2URL: https://datasheet.ciiva.com/11747/0900766b8082f558-11747128.pdf?src-supplier=RSComponents; ComponentLink2Description: https://datasheet.ciiva.com/11747/0900766b8082f558-11747128.pdf?src-supplier=RSComponents; ComponentLink3URL: https://datasheet.ciiva.com/26894/getdatasheetpartid-641020-26894599.pdf?src-supplier=Verical; ComponentLink3Description: https://datasheet.ciiva.com/26894/getdatasheetpartid-641020-26894599.pdf?src-supplier=Verical; ComponentLink4URL: https://datasheet.ciiva.com/712/eph-712447.pdf?src-supplier=Digi-Key; ComponentLink4Description: https://datasheet.ciiva.com/712/eph-712447.pdf?src-supplier=Digi-Key; ComponentLink5URL: https://datasheet.ciiva.com/8052/80564-8052207.pdf?src-supplier=Element14; ComponentLink5Description: https://datasheet.ciiva.com/8052/80564-8052207.pdf?src-supplier=Element14; ComponentLink6URL: https://datasheet.ciiva.com/16484/s2b-ph-k-slfsn-16484405.pdf?src-supplier=Future+Electronics; ComponentLink6Description: https://datasheet.ciiva.com/16484/s2b-ph-k-slfsn-16484405.pdf?src-supplier=Future+Electronics
footprint JST_S2B-PH-K-S(LF)(SN) (Connector Header Through Hole, Right Angle 2 position 0.079" (2.00mm))
pins: 1, 2

## S3B-XH-A(LF)(SN)
designator CN?  Supplier Part Number 1: 455-2250-ND
Conn Shrouded Header (4 Sides) HDR 3 POS 2.5mm Solder RA Side Entry Thru-Hole Box; Manufacturer: JST; Fabricante: JST Sales; Current Rating: 3A; Contact Resistance: 20mR; Voltage Rating (AC): 250V; Number of Positions: 3; Insulation Resistance: 1GR; Gender: Male; Connector Type: Male Pin; Wire/Cable Gauge: 22AWG; MPN: S3B-XH-A(LF)(SN); Footprint: None; Value: S3B-XH-A(LF)(SN); ComponentLink1Description: LOJA; ComponentLink1URL: https://www.digikey.com/product-detail/en/jst-sales-america-inc/S3B-XH-A-LF-SN/455-2250-ND/1651048; Supplier 1: Digi-Key; Manufacturer Part Number: S3B-XH-A(LF)(SN); RoHS: Yes; Category: Headers and Wire Housings; Stock 1: 12339; Pricing 1: 1=0,22000, 10=0,20400, 100=0,14140, 500=0,11968, 1000=0,09792, 5000=0,08704, 10000=0,07888 (USD); Mount: Through Hole; Contact Material: Brass; Contact Plating: Tin,Lead,Copper; Color: Natural; Housing Color: White; Housing Material: Polyamide; Min Operating Temperature: -25°C; Max Operating Temperature: 85°C; Number of Rows: 1; Package Quantity: 1000; Packaging: Bulk; Max Current Rating: 3A; Voltage Rating: 250V; Termination: Press-Fit; Number of Contacts: 3; Max Voltage Rating (AC): 250V; Orientation: Right Angle; Length: 9.9mm; Pitch: 2.5mm; Lead Pitch: 2.5mm; Depth: 11.5mm; REACH SVHC: No SVHC; Lead Free: Lead Free; ComponentLink2URL: https://datasheet.ciiva.com/26894/getdatasheetpartid-456511-26894917.pdf?src-supplier=Verical; ComponentLink2Description: https://datasheet.ciiva.com/26894/getdatasheetpartid-456511-26894917.pdf?src-supplier=Verical; ComponentLink3URL: https://datasheet.ciiva.com/16397/s3b-xh-a-lf-sn-16397639.pdf?src-supplier=Future+Electronics; ComponentLink3Description: https://datasheet.ciiva.com/16397/s3b-xh-a-lf-sn-16397639.pdf?src-supplier=Future+Electronics; ComponentLink4URL: https://datasheet.ciiva.com/726/exh-726405.pdf?src-supplier=Digi-Key; ComponentLink4Description: https://datasheet.ciiva.com/726/exh-726405.pdf?src-supplier=Digi-Key
footprint S3B-XH-A(LF)(SN) (CONN HEADER R/A 3POS 2.5MM)
pins: 1, 2, 3

## S4B-PH-K-S(LF)(SN)
designator CN?, comment VALOR  Supplier Part Number 1: 455-1719-ND
Conn Shrouded Header (4 Sides) HDR 2 POS 2mm Solder RA Thru-Hole Box; MPN: S2B-PH-K-S(LF)(SN); Manufacturer: JST; Fabricante: JST Sales; Current Rating: 2A; Contact Resistance: 20mR; Voltage Rating: 100V; Number of Positions: 2; Gender: Male; Connector Type: Male Pin; Insulation Resistance: 1GR; Footprint: PTH R/A 2 PIN; Value: VALOR; ComponentLink1Description: LOJA; ComponentLink1URL: https://www.digikey.com/product-detail/en/jst-sales-america-inc/S4B-PH-K-S-LF-SN/455-1721-ND/926628; ComponentLink2Description: DATASHEET; ComponentLink2URL: http://www.jst-mfg.com/product/pdf/eng/ePH.pdf; Supplier 1: Digi-Key; Manufacturer Part Number: S2B-PH-K-S(LF)(SN); RoHS: Yes; Category: Headers and Wire Housings; Pricing 1: 1=0,170000, 10=0,161000, 100=0,099100, 500=0,082020, 1000=0,071770, 5000=0,061520, 10000=0,059810 (USD); Mount: Through Hole; Number of Pins: 2; Contact Material: Tin,Brass,Bronze; Contact Plating: Tin,Copper; Color: Natural,White; Housing Color: White; Housing Material: Polyamide; Min Operating Temperature: -25°C; Max Operating Temperature: 85°C; Max Current Rating: 2A; Number of Rows: 1; Packaging: Bulk; Termination: Solder; Fastening Type: Detent; Number of Contacts: 2; Max Voltage Rating (AC): 100V; Orientation: Right Angle; Number of Poles: 2; Voltage Rating (AC): 100V; Max Voltage Rating (DC): 100V; Working Voltage: 100V; Length: 5.9mm; Height: 9.4mm; Pitch: 2mm; Width: 4.5mm; Contact Mating Length: 0.13inch; Depth: 7.6mm; Lead Pitch: 2mm; REACH SVHC: No SVHC; Lead Free: Lead Free; Flammability Rating: UL94 V-0; ComponentLink3URL: https://datasheet.ciiva.com/11747/0900766b8082f558-11747128.pdf?src-supplier=RSComponents; ComponentLink3Description: https://datasheet.ciiva.com/11747/0900766b8082f558-11747128.pdf?src-supplier=RSComponents; ComponentLink4URL: https://datasheet.ciiva.com/26894/getdatasheetpartid-641020-26894599.pdf?src-supplier=Verical; ComponentLink4Description: https://datasheet.ciiva.com/26894/getdatasheetpartid-641020-26894599.pdf?src-supplier=Verical; ComponentLink5URL: https://datasheet.ciiva.com/712/eph-712447.pdf?src-supplier=Digi-Key; ComponentLink5Description: https://datasheet.ciiva.com/712/eph-712447.pdf?src-supplier=Digi-Key; ComponentLink6URL: https://datasheet.ciiva.com/8052/80564-8052207.pdf?src-supplier=Element14; ComponentLink6Description: https://datasheet.ciiva.com/8052/80564-8052207.pdf?src-supplier=Element14; ComponentLink7URL: https://datasheet.ciiva.com/16484/s2b-ph-k-slfsn-16484405.pdf?src-supplier=Future+Electronics; ComponentLink7Description: https://datasheet.ciiva.com/16484/s2b-ph-k-slfsn-16484405.pdf?src-supplier=Future+Electronics
footprint JST_S4B-PH-K-S(LF)(SN)
pins: 1, 2, 3, 4

## S5B-PH-K-S(LF)(SN)
designator CN?, comment VALOR  Supplier Part Number 1: 455-1719-ND
Conn Shrouded Header (4 Sides) HDR 2 POS 2mm Solder RA Thru-Hole Box; MPN: S2B-PH-K-S(LF)(SN); Manufacturer: JST; Fabricante: JST Sales; Current Rating: 2A; Contact Resistance: 20mR; Voltage Rating: 100V; Number of Positions: 2; Gender: Male; Connector Type: Male Pin; Insulation Resistance: 1GR; Footprint: PTH R/A 2 PIN; Value: VALOR; ComponentLink1Description: LOJA; ComponentLink1URL: https://www.digikey.com/products/en?keywords=S5B-PH-K-S(LF)(SN); ComponentLink2Description: DATASHEET; ComponentLink2URL: http://www.jst-mfg.com/product/pdf/eng/ePH.pdf; Supplier 1: Digi-Key; Manufacturer Part Number: S2B-PH-K-S(LF)(SN); RoHS: Yes; Category: Headers and Wire Housings; Pricing 1: 1=0,170000, 10=0,161000, 100=0,099100, 500=0,082020, 1000=0,071770, 5000=0,061520, 10000=0,059810 (USD); Mount: Through Hole; Number of Pins: 2; Contact Material: Tin,Brass,Bronze; Contact Plating: Tin,Copper; Color: Natural,White; Housing Color: White; Housing Material: Polyamide; Min Operating Temperature: -25°C; Max Operating Temperature: 85°C; Max Current Rating: 2A; Number of Rows: 1; Packaging: Bulk; Termination: Solder; Fastening Type: Detent; Number of Contacts: 2; Max Voltage Rating (AC): 100V; Orientation: Right Angle; Number of Poles: 2; Voltage Rating (AC): 100V; Max Voltage Rating (DC): 100V; Working Voltage: 100V; Length: 5.9mm; Height: 9.4mm; Pitch: 2mm; Width: 4.5mm; Contact Mating Length: 0.13inch; Depth: 7.6mm; Lead Pitch: 2mm; REACH SVHC: No SVHC; Lead Free: Lead Free; Flammability Rating: UL94 V-0; ComponentLink3URL: https://datasheet.ciiva.com/11747/0900766b8082f558-11747128.pdf?src-supplier=RSComponents; ComponentLink3Description: https://datasheet.ciiva.com/11747/0900766b8082f558-11747128.pdf?src-supplier=RSComponents; ComponentLink4URL: https://datasheet.ciiva.com/26894/getdatasheetpartid-641020-26894599.pdf?src-supplier=Verical; ComponentLink4Description: https://datasheet.ciiva.com/26894/getdatasheetpartid-641020-26894599.pdf?src-supplier=Verical; ComponentLink5URL: https://datasheet.ciiva.com/712/eph-712447.pdf?src-supplier=Digi-Key; ComponentLink5Description: https://datasheet.ciiva.com/712/eph-712447.pdf?src-supplier=Digi-Key; ComponentLink6URL: https://datasheet.ciiva.com/8052/80564-8052207.pdf?src-supplier=Element14; ComponentLink6Description: https://datasheet.ciiva.com/8052/80564-8052207.pdf?src-supplier=Element14; ComponentLink7URL: https://datasheet.ciiva.com/16484/s2b-ph-k-slfsn-16484405.pdf?src-supplier=Future+Electronics; ComponentLink7Description: https://datasheet.ciiva.com/16484/s2b-ph-k-slfsn-16484405.pdf?src-supplier=Future+Electronics
footprint JST_S5B-PH-K-S(LF)(SN)
pins: 1, 2, 3, 4, 5

## S6B-PH-K-S
designator CN?, comment S6B-PH-K-S(LF)(SN)  Supplier Part Number 1: 455-1723-ND
JST (JAPAN SOLDERLESS TERMINALS) - S6B-PH-K-S (LF)(SN) - HEADER, SIDE ENTRY, 6WAY; Fabricante: JST Sales; Current Rating: 2A; Voltage Rating (AC): 100V; Gender: Male; Connector Type: Male Pin; Number of Positions: 6; Insulation Resistance: 1GR; Contact Resistance: 10mR; Pitch: 2mm; MPN: S6B-PH-K-S(LF)(SN); Footprint: PTH 6Pin R/A; Value: S6B-PH-K-S(LF)(SN); ComponentLink1Description: LOJA; ComponentLink1URL: https://www.digikey.com/product-detail/en/jst-sales-america-inc/S6B-PH-K-S-LF-SN/455-1723-ND/926630; Supplier 1: Digi-Key; Manufacturer: JST; Manufacturer Part Number: S6B-PH-K-S(LF)(SN); RoHS: Yes; Category: Headers and Wire Housings; Stock 1: 15504; Pricing 1: 1=0,310000, 10=0,296000, 100=0,207300, 500=0,177660, 1000=0,148040, 5000=0,126900, 10000=0,118440 (USD); Mount: Through Hole; Number of Pins: 6; Contact Material: Bronze,Brass,Tin; Housing Color: Natural; Contact Plating: Tin; Color: Natural,White; Min Operating Temperature: -25°C; Max Operating Temperature: 85°C; Voltage Rating: 100V; Packaging: Bulk; Orientation: Right Angle; Termination: Solder; Fastening Type: Detent; Number of Contacts: 6; Working Voltage: 100V; Number of Poles: 6; Number of Rows: 1; Length: 13.9mm; Height: 9.4mm; Width: 4.5mm; Contact Mating Length: 0.13inch; Lead Pitch: 2mm; REACH SVHC: No SVHC; Flammability Rating: UL94 V-0; Lead Free: Lead Free; ComponentLink2URL: https://datasheet.ciiva.com/20207/523648-20207255.pdf?src-supplier=Rapid+Electronics; ComponentLink2Description: https://datasheet.ciiva.com/20207/523648-20207255.pdf?src-supplier=Rapid+Electronics; ComponentLink3URL: https://datasheet.ciiva.com/712/eph-712540.pdf?src-supplier=Digi-Key; ComponentLink3Description: https://datasheet.ciiva.com/712/eph-712540.pdf?src-supplier=Digi-Key; ComponentLink4URL: https://datasheet.ciiva.com/8052/80564-8052220.pdf?src-supplier=Element14; ComponentLink4Description: https://datasheet.ciiva.com/8052/80564-8052220.pdf?src-supplier=Element14; ComponentLink5URL: https://datasheet.ciiva.com/43492/740335-da-01-en-stiftleiste-gewinkelt-6-pol-rm2-0-43492006.pdf?src-supplier=Conrad; ComponentLink5Description: https://datasheet.ciiva.com/43492/740335-da-01-en-stiftleiste-gewinkelt-6-pol-rm2-0-43492006.pdf?src-supplier=Conrad
footprint JST_S6B-PH-K-S R/A (CONN PH SERIES HEADER R/A 6POS 2MM)
pins: 1, 2, 3, 4, 5, 6

## S8B-PH-K-S(LF)(SN)
designator CN?, comment ***  Supplier Part Number 1: 455-1725-ND
CONN HEADER R/A 8POS 2MM; MPN: S8B-PH-K-S(LF)(SN); Manufacturer: JST; Fabricante: JST Sales; Current Rating: 2A; Number of Positions: 8; Max Voltage Rating (AC): 100V; Insulation Resistance: 1GR; Contact Resistance: 20mR; Gender: Male; Connector Type: Header,Male Pin; Footprint: PTH 8Pin; Value: ***; ComponentLink1Description: LOJA; ComponentLink1URL: https://www.digikey.com/products/en?keywords=S9B-PH-K-S(LF)(SN); Supplier 1: Digi-Key; Manufacturer Part Number: S8B-PH-K-S(LF)(SN); RoHS: Yes; Category: Headers and Wire Housings; Pricing 1: 1=0,39000, 10=0,37100, 100=0,25960, 500=0,22252, 1000=0,18544, 5000=0,15895, 10000=0,14835 (USD); Mount: Through Hole; Number of Pins: 8; Contact Material: Brass,Tin,Bronze; Contact Plating: Tin,Copper; Color: White; Housing Color: White; Contact Shape: Square; Insulation Material: Nylon; Insulation Color: Natural; Housing Material: Polyamide; Min Operating Temperature: -25°C; Max Operating Temperature: 85°C; Termination: Solder; Fastening Type: Detent; Number of Contacts: 8; Working Voltage: 100V; Number of Rows: 1; Voltage Rating (AC): 100V; Number of Poles: 8; Max Current Rating: 2A; Voltage Rating: 100V; Packaging: Bulk; Orientation: Right Angle; Length: 17.9mm; Height: 9.4mm; Pitch: 2mm; Width: 4.5mm; Contact Mating Length: 0.13inch; Depth: 7.6mm; Lead Pitch: 2mm; Flammability Rating: UL94 V-0; Lead Free: Lead Free; REACH SVHC: No SVHC; ComponentLink2URL: https://datasheet.ciiva.com/8052/80564-8052240.pdf?src-supplier=Element14; ComponentLink2Description: https://datasheet.ciiva.com/8052/80564-8052240.pdf?src-supplier=Element14; ComponentLink3URL: https://datasheet.ciiva.com/16484/eph-16484630.pdf?src-supplier=Future+Electronics; ComponentLink3Description: https://datasheet.ciiva.com/16484/eph-16484630.pdf?src-supplier=Future+Electronics; ComponentLink4URL: https://datasheet.ciiva.com/712/eph-712590.pdf?src-supplier=Digi-Key; ComponentLink4Description: https://datasheet.ciiva.com/712/eph-712590.pdf?src-supplier=Digi-Key
footprint JST_S8B-PH-K-S R/A (CONN PH SERIES HEADER R/A 8POS 2MM)
pins: 1, 2, 3, 4, 5, 6, 7, 8